# Altium schematic symbol library Schlib1.SchLib: 2 symbols
Pins are listed as number, name and electrical type; pins without a type are passive.

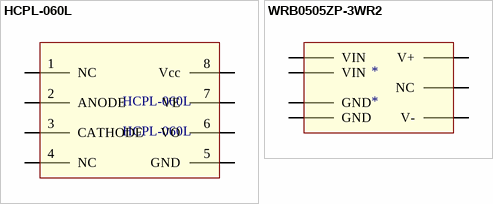
[diagram p0: symbols HCPL-060L to WRB0505ZP-3WR2]

## HCPL-060L
designator HCPL-060L
footprint SO8
pins: 1 NC, 2 ANODE, 3 CATHODE, 4 NC, 5 GND, 6 VO, 7 VE, 8 Vcc

## WRB0505ZP-3WR2
designator *
footprint WRB0505ZP-3WR2
pins: 2 GND, 3 GND, 11 NC, 14 V+, 16 V-, 22 VIN, 23 VIN